# Altium footprint library 43045-2000.PcbLib: 1 footprints
Each footprint in its own frame and in the unit in brackets; x right, y up, seen from the top. Pads: shape width x height; smd on the part's side, far side on the other; paste and mask are expansions set on the pad; w line width, h text height; cw(c..) or ccw(c..) is an arc to the next point about the centre after c.
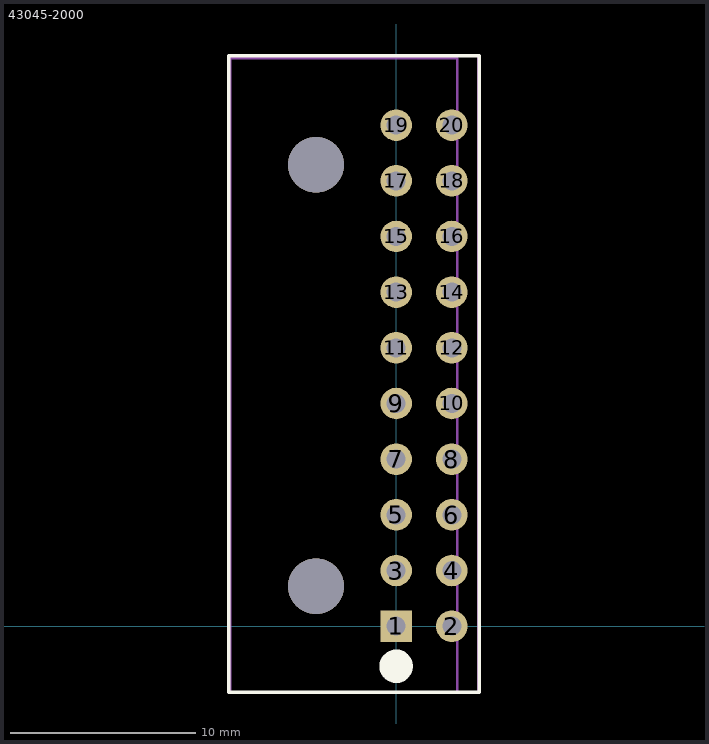
[diagram p0: the footprint, top view; thin cyan lines are the x and y axes]

## 43045-2000 [mm] "Molex Micro-Fit 3.0 2x10"
pads (20):
  rect 1.7x1.7 hole 1.02: 1(0,0)
  round 1.7 hole 1.02: 2(3,0) 3(0,3) 4(3,3) 5(0,6) 6(3,6) 7(0,9) 8(3,9) 9(0,12) 10(3,12) 11(0,15) 12(3,15) 13(0,18) 14(3,18) 15(0,21) 16(3,21) 17(0,24) 18(3,24) 19(0,27) 20(3,27)
via -4.32,24.86 diameter 3 hole 3
via -4.32,2.16 diameter 3 hole 3
Top Overlay:
  circle w1: c0,-2.159 r0.4
  lines w0.2: -9.017,-3.556 -9.017,30.734 4.475,30.734 4.475,-3.556 -9.017,-3.556
Top Assembly:
  lines w0.127: -8.938,-3.556 3.302,-3.556 3.302,30.607 -8.938,30.607 -8.938,-3.556
Top Courtyard:
  lines w0.127: -9.017,-3.556 4.425,-3.556 4.425,30.734 -9.017,30.734 -9.017,-3.556
3D body "430452000.stp": height 8.83, standoff -3.12, extent -8.916,-3.542 3.324,30.608